# Altium schematic symbol library Schlib.SchLib: 39 symbols
Pins are listed as number, name and electrical type; pins without a type are passive.

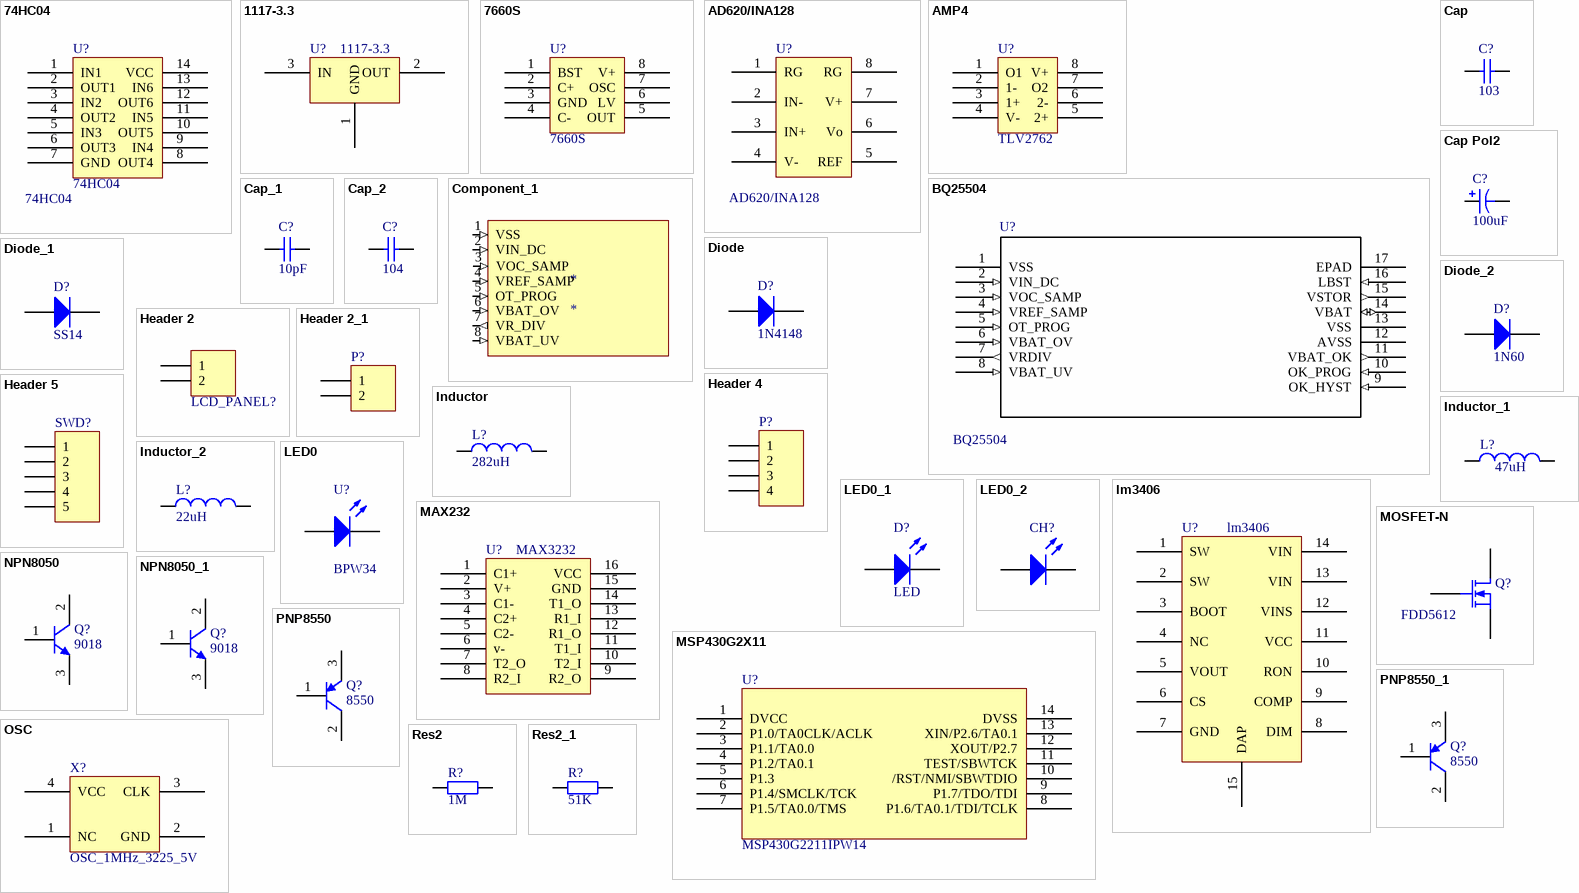
[diagram p0: symbols 74HC04 to Res2_1]

## 74HC04
designator U?
Value: 74HC04
footprint sop-14
pins: 1 IN1, 2 OUT1, 3 IN2, 4 OUT2, 5 IN3, 6 OUT3, 7 GND, 8 OUT4, 9 IN4, 10 OUT5, 11 IN5, 12 OUT6, 13 IN6, 14 VCC

## 1117-3.3
designator U?
Value: 1117-3.3
footprint SOT-223
pins: 1 GND, 2 OUT, 3 IN

## 7660S
designator U?
Value: 7660S
footprint SOP-8
pins: 1 BST, 2 C+, 3 GND, 4 C-, 5 OUT, 6 LV, 7 OSC, 8 V+

## AD620/INA128
designator U?
Value: AD620/INA128
footprint sop-8
pins: 1 RG, 2 IN-, 3 IN+, 4 V-, 5 REF, 6 Vo, 7 V+, 8 RG

## AMP4
designator U?  value TLV2762  (hidden comment: AMP4)
footprint SOP-8
pins: 1 O1, 2 1-, 3 1+, 4 V-, 5 2+, 6 2-, 7 O2, 8 V+

## BQ25504
designator U?
Value: BQ25504
footprint QFN16(3.2X3.2)
pins: 1 VSS (power), 2 VIN_DC (in), 3 VOC_SAMP (in), 4 VREF_SAMP (in), 5 OT_PROG (in), 6 VBAT_OV (in), 7 VRDIV (out), 8 VBAT_UV (in), 9 OK_HYST (in), 10 OK_PROG (in), 11 VBAT_OK (out), 12 AVSS (power), 13 VSS (power), 14 VBAT (io), 15 VSTOR (out), 16 LBST (in), 17 EPAD (power)

## Cap
designator C?  value 103  (hidden comment: Cap)
Capacitor; LatestRevisionDate: 17-Jul-2002; LatestRevisionNote: Re-released for DXP Platform.; Publisher: Altium Limited
footprint RAD-0.3 (Capacitor; 2 Leads)
footprint VP32-3.2 (Capacitor, Ceramic, Thru-Hole, Dipped Radial; Body 5.1 x 3.2 mm (WxT) Pin Spacing 2.54 mm (typ))
footprint VP45-3.2 (Capacitor, Ceramic, Thru-Hole, Dipped Radial; Body 7.8 x 3.2 mm (WxT) Pin Spacing 5.08 mm (typ))
simulation model CAP (Capacitor)
signal-integrity model Cap
footprint CC1005-0402 (Chip Capacitor; Body 1.0 x 0.5 mm (LxW typ))
footprint CC1005-0402 (Chip Capacitor; Body 1.0 x 0.5 mm (LxW typ))
footprint 0603C
pins: 1, 2

## Cap Pol2
designator C?  value 100uF  (hidden comment: Cap Pol2)
Polarized Capacitor (Axial); Published: 8-Jun-2000; LatestRevisionDate: 17-Jul-2002; LatestRevisionNote: Re-released for DXP Platform.; PackageReference: POLAR0.8; Publisher: Altium Limited
footprint C100UF16V
footprint CAPPA14.05-10.5x6.3 (Capacitor, Axial, Polarised; Body 10.5 x 6.3 mm (LxDia. max), Lead Dia. 0.6 mm (typ))
footprint CAPPA23.6-18.5x8.5 (Capacitor, Axial, Polarised; Body 18.5 x 8.5 mm (LxDia. max), Lead Dia. 0.8 mm (typ))
footprint CAPPA31.6-26.5x12.5 (Capacitor, Axial, Polarised; Body 26.5 x 12.5 mm (LxDia. max), Lead Dia. 0.8 mm (typ))
footprint CAPPA35.6-30.5x18.5 (Capacitor, Axial, Polarised; Body 30.5 x 18.5 mm (LxDia. max), Lead Dia. 0.8 mm (typ))
footprint CAPPA46.1-41x21.5 (Capacitor, Axial, Polarised; Body 41 x 21.5 mm (LxDia. max), Lead Dia. 0.8 mm (typ))
simulation model CAP (Capacitor)
signal-integrity model Cap Pol
pins: 1, 2
1 alternate drawing of the same symbol

## Cap_1
designator C?, comment value 10pF  (hidden comment: Cap)
Capacitor; Published: 8-Jun-2000; LatestRevisionDate: 17-Jul-2002; LatestRevisionNote: Re-released for DXP Platform.; PackageReference: RAD-0.3; Publisher: Altium Limited
footprint RAD-0.3 (Capacitor; 2 Leads)
footprint VP32-3.2 (Capacitor, Ceramic, Thru-Hole, Dipped Radial; Body 5.1 x 3.2 mm (WxT) Pin Spacing 2.54 mm (typ))
footprint VP45-3.2 (Capacitor, Ceramic, Thru-Hole, Dipped Radial; Body 7.8 x 3.2 mm (WxT) Pin Spacing 5.08 mm (typ))
simulation model CAP (Capacitor)
signal-integrity model Cap
footprint 0805R
footprint 0603C
pins: 1, 2

## Cap_2
designator C?, comment value 104  (hidden comment: Cap)
Capacitor; LatestRevisionDate: 17-Jul-2002; LatestRevisionNote: Re-released for DXP Platform.; Publisher: Altium Limited
footprint RAD-0.3 (Capacitor; 2 Leads)
footprint VP32-3.2 (Capacitor, Ceramic, Thru-Hole, Dipped Radial; Body 5.1 x 3.2 mm (WxT) Pin Spacing 2.54 mm (typ))
footprint VP45-3.2 (Capacitor, Ceramic, Thru-Hole, Dipped Radial; Body 7.8 x 3.2 mm (WxT) Pin Spacing 5.08 mm (typ))
simulation model CAP (Capacitor)
signal-integrity model Cap
footprint CC1005-0402 (Chip Capacitor; Body 1.0 x 0.5 mm (LxW typ))
footprint CC1005-0402 (Chip Capacitor; Body 1.0 x 0.5 mm (LxW typ))
footprint 0603C
pins: 1, 2

## Component_1
designator *
pins: 1 VSS (in), 2 VIN_DC (in), 3 VOC_SAMP (in), 4 VREF_SAMP (in), 5 OT_PROG (in), 6 VBAT_OV (in), 7 VR_DIV (out), 8 VBAT_UV (in)

## Diode
designator D?  value 1N4148  (hidden comment: Diode)
Default Diode; Published: 8-Jun-2000; LatestRevisionDate: 17-Jul-2002; LatestRevisionNote: Re-released for DXP Platform.; PackageDocument: Sep-1996; PackageReference: SMC; Publisher: Altium Limited
footprint IN4148D
simulation model DIODE (Diode)
signal-integrity model Diode
pins: 1 A, 2 K

## Diode_1
designator D?, comment value SS14  (hidden comment: Diode)
Default Diode; Published: 8-Jun-2000; LatestRevisionDate: 17-Jul-2002; LatestRevisionNote: Re-released for DXP Platform.; PackageDocument: Sep-1996; PackageReference: SMC; Publisher: Altium Limited
footprint SS14
simulation model DIODE (Diode)
signal-integrity model Diode
pins: 1 A, 2 K

## Diode_2
designator D?, comment value 1N60  (hidden comment: Diode)
Default Diode; Published: 8-Jun-2000; LatestRevisionDate: 17-Jul-2002; LatestRevisionNote: Re-released for DXP Platform.; PackageDocument: Sep-1996; PackageReference: SMC; Publisher: Altium Limited
footprint IN4148D
simulation model DIODE (Diode)
signal-integrity model Diode
pins: 1 A, 2 K

## Header 2
designator LCD_PANEL?  (value not drawn)
Header, 2-Pin; Value: SOCKET_2; LatestRevisionDate: 17-Jul-2002; LatestRevisionNote: Re-released for DXP Platform.; Publisher: Altium Limited
footprint SIP2
pins: 1, 2

## Header 2_1
designator P?
Header, 2-Pin; Value: SIP2; LatestRevisionDate: 17-Jul-2002; LatestRevisionNote: Re-released for DXP Platform.; Publisher: Altium Limited
footprint SIP2
signal-integrity model Connector
pins: 1, 2

## Header 4
designator P?  (value not drawn)
Header, 4-Pin; Value: SOCKET_4; LatestRevisionDate: 17-Jul-2002; LatestRevisionNote: Re-released for DXP Platform.; Publisher: Altium Limited
footprint SIP4
signal-integrity model Connector
pins: 1, 2, 3, 4

## Header 5
designator SWD?
Header, 5-Pin; Value: SIP5; LatestRevisionDate: 17-Jul-2002; LatestRevisionNote: Re-released for DXP Platform.; Publisher: Altium Limited
footprint SIP5
signal-integrity model Connector
pins: 1, 2, 3, 4, 5

## Inductor
designator L?  value 282uH  (hidden comment: Inductor)
Code_IEC: 1005; Published: 8-Jun-2000; LatestRevisionDate: 17-Jul-2002; LatestRevisionNote: Re-released for DXP Platform.; Publisher: Altium Limited
footprint 0805R
footprint INDC1608-0603 (Chip Inductor; Body 1.6 x 0.8 mm (LxW typ))
footprint INDC2010-0804 (2012 Chip; Chip Inductor; Body 2.0 x 1.2 mm (LxW typ))
footprint INDC2012-0805 (Chip Inductor; Body 2 x 1.2 mm (LxW typ))
footprint INDC3216-1206 (3216 Chip; Chip Inductor; Body 3.2 x 1.6 mm (LxW typ))
footprint INDC4510-1804 (4564 Chip; Chip Inductor; Body 4.5 x 6.4 mm (LxW typ))
simulation model INDUCTOR (Inductor)
signal-integrity model Inductor
pins: 1, 2

## Inductor_1
designator L?, comment value 47uH  (hidden comment: Inductor)
Code_IEC: 1005; Published: 8-Jun-2000; LatestRevisionDate: 17-Jul-2002; LatestRevisionNote: Re-released for DXP Platform.; Publisher: Altium Limited
footprint 1206
footprint INDC1608-0603 (Chip Inductor; Body 1.6 x 0.8 mm (LxW typ))
footprint INDC2010-0804 (2012 Chip; Chip Inductor; Body 2.0 x 1.2 mm (LxW typ))
footprint INDC2012-0805 (Chip Inductor; Body 2 x 1.2 mm (LxW typ))
footprint INDC3216-1206 (3216 Chip; Chip Inductor; Body 3.2 x 1.6 mm (LxW typ))
footprint INDC4510-1804 (4564 Chip; Chip Inductor; Body 4.5 x 6.4 mm (LxW typ))
simulation model INDUCTOR (Inductor)
signal-integrity model Inductor
pins: 1, 2

## Inductor_2
designator L?, comment value 22uH  (hidden comment: Inductor)
Code_IEC: 1005; Published: 8-Jun-2000; LatestRevisionDate: 17-Jul-2002; LatestRevisionNote: Re-released for DXP Platform.; Publisher: Altium Limited
footprint 0805R
footprint INDC1608-0603 (Chip Inductor; Body 1.6 x 0.8 mm (LxW typ))
footprint INDC2010-0804 (2012 Chip; Chip Inductor; Body 2.0 x 1.2 mm (LxW typ))
footprint INDC2012-0805 (Chip Inductor; Body 2 x 1.2 mm (LxW typ))
footprint INDC3216-1206 (3216 Chip; Chip Inductor; Body 3.2 x 1.6 mm (LxW typ))
footprint INDC4510-1804 (4564 Chip; Chip Inductor; Body 4.5 x 6.4 mm (LxW typ))
simulation model INDUCTOR (Inductor)
signal-integrity model Inductor
pins: 1, 2

## LED0
designator U?  value BPW34
Typical INFRARED GaAs LED; Published: 8-Jun-2000; LatestRevisionDate: 17-Jul-2002; LatestRevisionNote: Re-released for DXP Platform.; Publisher: Altium Limited
simulation model LED0 (Diode)
footprint SENSOR_1
pins: 1 A, 2 K

## LED0_1
designator D?  value LED
Typical INFRARED GaAs LED; Published: 8-Jun-2000; LatestRevisionDate: 17-Jul-2002; LatestRevisionNote: Re-released for DXP Platform.; Publisher: Altium Limited
simulation model LED0 (Diode)
footprint LED-3mm
pins: 1 A, 2 K

## LED0_2
designator CH?
Typical INFRARED GaAs LED; Value: SIP2; Published: 8-Jun-2000; LatestRevisionDate: 17-Jul-2002; LatestRevisionNote: Re-released for DXP Platform.; Publisher: Altium Limited
simulation model LED0 (Diode)
footprint SIP2
pins: 1 A, 2 K

## lm3406
designator U?
Value: lm3406
footprint SSOP-14
pins: 1 SW, 2 SW, 3 BOOT, 4 NC, 5 VOUT, 6 CS, 7 GND, 8 DIM, 9 COMP, 10 RON, 11 VCC, 12 VINS, 13 VIN, 14 VIN, 15 DAP

## MAX232
designator U?, comment MAX3232
Value: MAX3232
footprint SOP-16
pins: 1 C1+, 2 V+, 3 C1-, 4 C2+, 5 C2-, 6 v-, 7 T2_O, 8 R2_I, 9 R2_O, 10 T2_I, 11 T1_I, 12 R1_O, 13 R1_I, 14 T1_O, 15 GND, 16 VCC

## MOSFET-N
designator Q?  value FDD5612  (hidden comment: MOSFET-N)
N-Channel MOSFET; Published: 8-Jun-2000; LatestRevisionDate: 17-Jul-2002; LatestRevisionNote: Re-released for DXP Platform.; Publisher: Altium Limited
footprint TO-252
simulation model NMOS (MOSFET-N)
pins: 1 G, 2 D, 3 S

## MSP430G2X11
designator U?  value MSP430G2211IPW14  (hidden comment: MSP430G2X11)
footprint TSSOP14 (Shrink Small Outline; 14 Leads; Body Width 4.4 mm; Pitch 0.65 mm)
pins: 1 DVCC, 2 P1.0/TA0CLK/ACLK, 3 P1.1/TA0.0, 4 P1.2/TA0.1, 5 P1.3, 6 P1.4/SMCLK/TCK, 7 P1.5/TA0.0/TMS, 8 P1.6/TA0.1/TDI/TCLK, 9 P1.7/TDO/TDI, 10 /RST/NMI/SBWTDIO, 11 TEST/SBWTCK, 12 XOUT/P2.7, 13 XIN/P2.6/TA0.1, 14 DVSS

## NPN8050
designator Q?  value 9018  (hidden comment: NPN8050)
footprint 8050SOT
pins: 1 B, 2 C, 3 E

## NPN8050_1
designator Q?, comment value 9018  (hidden comment: NPN8050)
footprint 8050SOT
pins: 1 B, 2 C, 3 E

## OSC
designator X?, comment value OSC_1MHz_3225_5V  (hidden comment: OSC_1MHz)
footprint XTAL(3.2X2.5)
pins: 1 NC, 2 GND, 3 CLK, 4 VCC

## PNP8550
designator Q?  value 8550  (hidden comment: PNP8550)
footprint 8050SOT
pins: 1 B, 2 C, 3 E

## PNP8550_1
designator Q?, comment value 8550  (hidden comment: PNP8550)
footprint 8050SOT
pins: 1 B, 2 C, 3 E

## Res2
designator R?  value 1M  (hidden comment: Res2)
Resistor
footprint AXIAL-0.4 (Resistor; 2 Leads)
simulation model RESISTOR (Resistor)
signal-integrity model Res
footprint 0805R
footprint CR1005-0402 (Chip Resistor; Body 1.1 x 0.5 mm (LxW typ))
footprint 0603R
pins: 1, 2

## Res2_1
designator R?, comment value 51K  (hidden comment: Res2)
Resistor
footprint AXIAL-0.4 (Resistor; 2 Leads)
simulation model RESISTOR (Resistor)
signal-integrity model Res
footprint 0805R
footprint CR1005-0402 (Chip Resistor; Body 1.1 x 0.5 mm (LxW typ))
footprint 0603R
pins: 1, 2

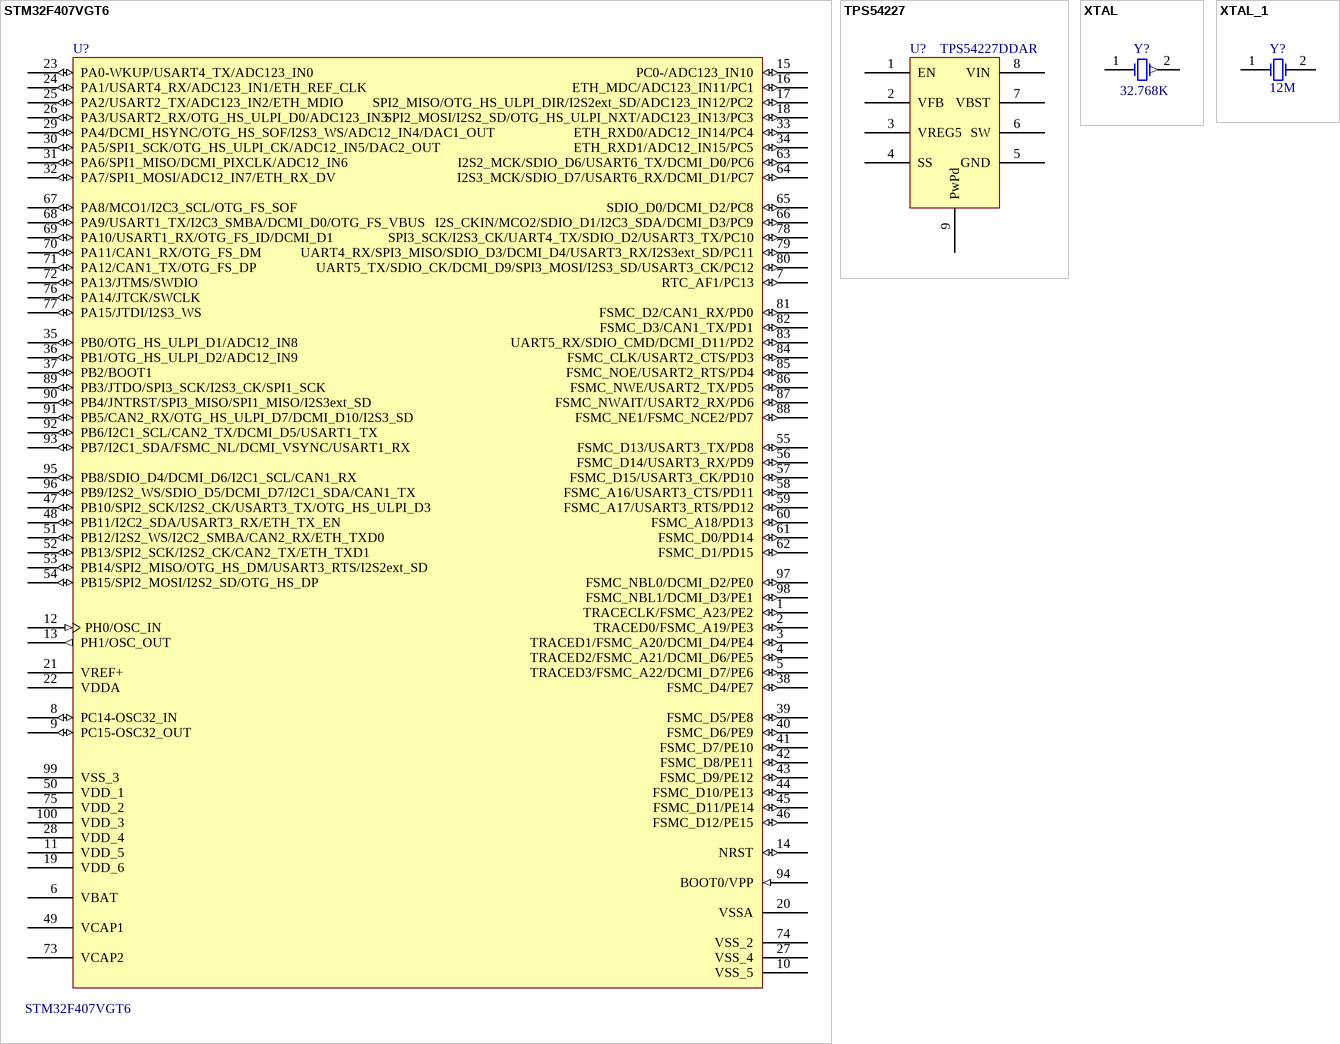
[diagram p1: symbols STM32F407VGT6 to XTAL_1]

## STM32F407VGT6
designator U?
Value: STM32F407VGT6
footprint LQFP-100
pins: 1 TRACECLK/FSMC_A23/PE2 (io), 2 TRACED0/FSMC_A19/PE3 (io), 3 TRACED1/FSMC_A20/DCMI_D4/PE4 (io), 4 TRACED2/FSMC_A21/DCMI_D6/PE5 (io), 5 TRACED3/FSMC_A22/DCMI_D7/PE6 (io), 6 VBAT (power), 7 RTC_AF1/PC13 (io), 8 PC14-OSC32_IN (io), 9 PC15-OSC32_OUT (io), 10 VSS_5 (power), 11 VDD_5 (power), 12 PH0/OSC_IN (in), 13 PH1/OSC_OUT (out), 14 NRST (io), 15 PC0-/ADC123_IN10 (io), 16 ETH_MDC/ADC123_IN11/PC1 (io), 17 SPI2_MISO/OTG_HS_ULPI_DIR/I2S2ext_SD/ADC123_IN12/PC2 (io), 18 SPI2_MOSI/I2S2_SD/OTG_HS_ULPI_NXT/ADC123_IN13/PC3 (io), 19 VDD_6 (power), 20 VSSA (power), 21 VREF+ (power), 22 VDDA (power), 23 PA0-WKUP/USART4_TX/ADC123_IN0 (io), 24 PA1/USART4_RX/ADC123_IN1/ETH_REF_CLK (io), 25 PA2/USART2_TX/ADC123_IN2/ETH_MDIO (io), 26 PA3/USART2_RX/OTG_HS_ULPI_D0/ADC123_IN3 (io), 27 VSS_4 (power), 28 VDD_4 (power), 29 PA4/DCMI_HSYNC/OTG_HS_SOF/I2S3_WS/ADC12_IN4/DAC1_OUT (io), 30 PA5/SPI1_SCK/OTG_HS_ULPI_CK/ADC12_IN5/DAC2_OUT (io), 31 PA6/SPI1_MISO/DCMI_PIXCLK/ADC12_IN6 (io), 32 PA7/SPI1_MOSI/ADC12_IN7/ETH_RX_DV (io), 33 ETH_RXD0/ADC12_IN14/PC4 (io), 34 ETH_RXD1/ADC12_IN15/PC5 (io), 35 PB0/OTG_HS_ULPI_D1/ADC12_IN8 (io), 36 PB1/OTG_HS_ULPI_D2/ADC12_IN9 (io), 37 PB2/BOOT1 (io), 38 FSMC_D4/PE7 (io), 39 FSMC_D5/PE8 (io), 40 FSMC_D6/PE9 (io), 41 FSMC_D7/PE10 (io), 42 FSMC_D8/PE11 (io), 43 FSMC_D9/PE12 (io), 44 FSMC_D10/PE13 (io), 45 FSMC_D11/PE14 (io), 46 FSMC_D12/PE15 (io), 47 PB10/SPI2_SCK/I2S2_CK/USART3_TX/OTG_HS_ULPI_D3 (io), 48 PB11/I2C2_SDA/USART3_RX/ETH_TX_EN (io), 49 VCAP1 (power), 50 VDD_1 (power), 51 PB12/I2S2_WS/I2C2_SMBA/CAN2_RX/ETH_TXD0 (io), 52 PB13/SPI2_SCK/I2S2_CK/CAN2_TX/ETH_TXD1 (io), 53 PB14/SPI2_MISO/OTG_HS_DM/USART3_RTS/I2S2ext_SD (io), 54 PB15/SPI2_MOSI/I2S2_SD/OTG_HS_DP (io), 55 FSMC_D13/USART3_TX/PD8 (io), 56 FSMC_D14/USART3_RX/PD9 (io), 57 FSMC_D15/USART3_CK/PD10 (io), 58 FSMC_A16/USART3_CTS/PD11 (io), 59 FSMC_A17/USART3_RTS/PD12 (io), 60 FSMC_A18/PD13 (io), 61 FSMC_D0/PD14 (io), 62 FSMC_D1/PD15 (io), 63 I2S2_MCK/SDIO_D6/USART6_TX/DCMI_D0/PC6 (io), 64 I2S3_MCK/SDIO_D7/USART6_RX/DCMI_D1/PC7 (io), 65 SDIO_D0/DCMI_D2/PC8 (io), 66 I2S_CKIN/MCO2/SDIO_D1/I2C3_SDA/DCMI_D3/PC9 (io), 67 PA8/MCO1/I2C3_SCL/OTG_FS_SOF (io), 68 PA9/USART1_TX/I2C3_SMBA/DCMI_D0/OTG_FS_VBUS (io), 69 PA10/USART1_RX/OTG_FS_ID/DCMI_D1 (io), 70 PA11/CAN1_RX/OTG_FS_DM (io), 71 PA12/CAN1_TX/OTG_FS_DP (io), 72 PA13/JTMS/SWDIO (io), 73 VCAP2, 74 VSS_2 (power), 75 VDD_2 (power), 76 PA14/JTCK/SWCLK (io), 77 PA15/JTDI/I2S3_WS (io), 78 SPI3_SCK/I2S3_CK/UART4_TX/SDIO_D2/USART3_TX/PC10 (io), 79 UART4_RX/SPI3_MISO/SDIO_D3/DCMI_D4/USART3_RX/I2S3ext_SD/PC11 (io), 80 UART5_TX/SDIO_CK/DCMI_D9/SPI3_MOSI/I2S3_SD/USART3_CK/PC12 (io), 81 FSMC_D2/CAN1_RX/PD0 (io), 82 FSMC_D3/CAN1_TX/PD1 (io), 83 UART5_RX/SDIO_CMD/DCMI_D11/PD2 (io), 84 FSMC_CLK/USART2_CTS/PD3 (io), 85 FSMC_NOE/USART2_RTS/PD4 (io), 86 FSMC_NWE/USART2_TX/PD5 (io), 87 FSMC_NWAIT/USART2_RX/PD6 (io), 88 FSMC_NE1/FSMC_NCE2/PD7 (io), 89 PB3/JTDO/SPI3_SCK/I2S3_CK/SPI1_SCK (io), 90 PB4/JNTRST/SPI3_MISO/SPI1_MISO/I2S3ext_SD (io), 91 PB5/CAN2_RX/OTG_HS_ULPI_D7/DCMI_D10/I2S3_SD (io), 92 PB6/I2C1_SCL/CAN2_TX/DCMI_D5/USART1_TX (io), 93 PB7/I2C1_SDA/FSMC_NL/DCMI_VSYNC/USART1_RX (io), 94 BOOT0/VPP (in), 95 PB8/SDIO_D4/DCMI_D6/I2C1_SCL/CAN1_RX (io), 96 PB9/I2S2_WS/SDIO_D5/DCMI_D7/I2C1_SDA/CAN1_TX (io), 97 FSMC_NBL0/DCMI_D2/PE0 (io), 98 FSMC_NBL1/DCMI_D3/PE1 (io), 99 VSS_3 (power), 100 VDD_3 (power)

## TPS54227
designator U?  value TPS54227DDAR  (hidden comment: TPS54227)
footprint SOP-8-Pad
pins: 1 EN, 2 VFB, 3 VREG5, 4 SS, 5 GND, 6 SW, 7 VBST, 8 VIN, 9 PwPd

## XTAL
designator Y?  value 32.768K  (hidden comment: XTAL)
Crystal Oscillator; Published: 8-Jun-2000; LatestRevisionDate: 17-Jul-2002; LatestRevisionNote: Re-released for DXP Platform.; PackageReference: R38; Publisher: Altium Limited
footprint XTAL5
simulation model XTAL (Spice Subcircuit)
pins: 1 OSC1, 2 OSC2 (out)

## XTAL_1
designator Y?, comment value 12M  (hidden comment: XTAL)
Crystal Oscillator; Published: 8-Jun-2000; LatestRevisionDate: 17-Jul-2002; LatestRevisionNote: Re-released for DXP Platform.; PackageReference: R38; Publisher: Altium Limited
footprint XTAL-D
simulation model XTAL (Spice Subcircuit)
pins: 1 OSC1, 2 OSC2